# Altium footprint library Jacks.PcbLib: 4 footprints
Each footprint in its own frame and in the unit in brackets; x right, y up, seen from the top. Pads: shape width x height; smd on the part's side, far side on the other; paste and mask are expansions set on the pad; w line width, h text height; cw(c..) or ccw(c..) is an arc to the next point about the centre after c.
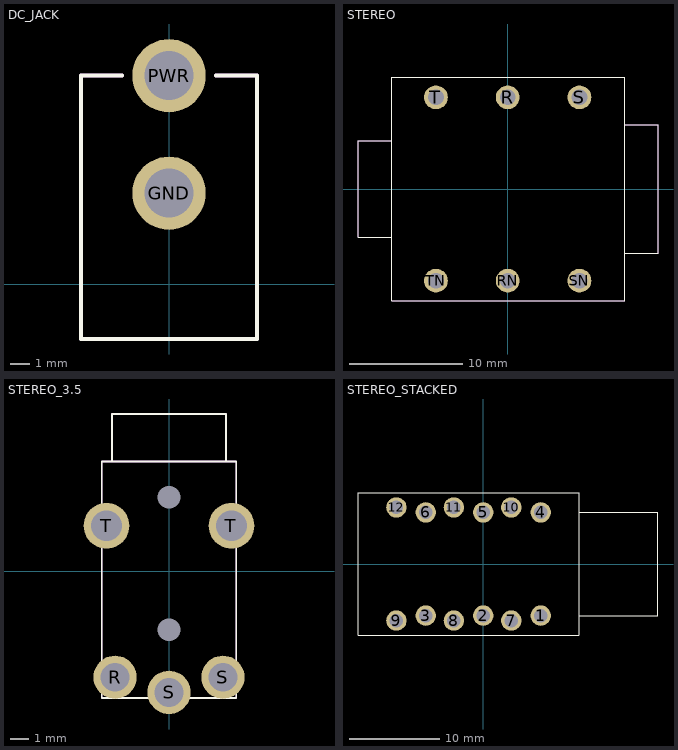
[diagram p0: the footprints below, top view; thin cyan lines are the x and y axes]

## DC_JACK [mm]
pads (2):
  round 3.75 hole 2.5: GND(0,4.652) PWR(0,10.652)
Top Overlay:
  lines w0.203: -2.4,10.652 -4.5,10.652 -4.5,-2.794 4.5,-2.794 4.5,5.252 ; 2.4,10.652 4.5,10.652 4.5,9.952 ; 4.496,5.036 4.496,9.957
Mechanical 2:
  lines w0.203: -2.4,10.652 -4.5,10.652 -4.5,-2.794 4.5,-2.794 4.5,5.252 ; 2.4,10.652 4.5,10.652 4.5,9.952 ; 4.496,5.036 4.496,9.957
3D body "DC_JACK.step": height 11, standoff -3.5, extent -4.504,-2.856 4.496,11.644

## STEREO [mm]
pads (6):
  round 2.1 hole 1.4: R(0,8.115) RN(0,-8.115) S(6.35,8.115) SN(6.35,-8.115) T(-6.35,8.115) TN(-6.35,-8.115)
Top Overlay:
  lines w0.1: -10.25,-4.25 -13.25,-4.25 -13.25,4.25 -10.25,4.25 ; -10.25,-4.25 -10.25,4.25 ; -10.25,-4.25 -10.25,-9.906 10.35,-9.906 10.35,-5.7 ; -10.25,4.25 -10.25,9.906 10.35,9.906 10.35,5.7 ; 10.35,-5.7 13.3,-5.7 13.3,5.7 10.35,5.7 ; 10.35,-5.7 10.35,5.7
Mechanical 2:
  lines w0.1: -10.25,-4.25 -10.25,4.25 ; -10.25,-4.25 -10.25,-9.906 10.35,-9.906 10.35,-5.7 ; -10.25,-4.25 -13.25,-4.25 -13.25,4.25 -10.25,4.25 ; -10.25,4.25 -10.25,9.906 10.35,9.906 10.35,5.7 ; 10.35,-5.7 10.35,5.7 ; 10.35,-5.7 13.3,-5.7 13.3,5.7 10.35,5.7
3D body "STEREO.STEP": height 15.5, standoff -4, extent -14.275,-9.967 14.275,10.033

## STEREO_3.5 [mm]
pads (7):
  round 2.285 hole 1.523: R(-2.85,-5.6) S(0,-6.4) S(2.85,-5.6)
  round 2.419 hole 1.613: T(-3.3,2.4) T(3.3,2.4)
  round 0.55 hole 1.2 unplated: ""(0,-3.1) ""(0,3.9)
Top Overlay:
  lines w0.1: -3,5.8 -3.55,5.8 -3.55,-6.7 3.55,-6.7 3.55,5.8 3,5.8 ; -3,5.8 -3,8.3 3,8.3 3,5.8 ; -3,5.8 3,5.8
Mechanical 2:
  lines w0.1: -3,5.8 -3,8.3 3,8.3 3,5.8 ; -3.55,-6.7 -3.55,5.8 3.55,5.8 3.55,-6.7 -3.55,-6.7
3D body "PJ-322.step": height 6, standoff -2.5, extent -3.5,-6.308 3.5,8.317

## STEREO_STACKED [mm]
pads (12):
  round 2.25 hole 1.5: 1(6.35,-5.7) 2(0,-5.7) 3(-6.35,-5.7) 4(6.35,5.7) 5(0,5.7) 6(-6.35,5.7) 7(3.1,-6.25) 8(-3.25,-6.25) 9(-9.6,-6.25) 10(3.1,6.25) 11(-3.25,6.25) 12(-9.6,6.25)
Top Overlay:
  lines w0.127: 10.541,-7.874 -13.843,-7.874 -13.843,7.874 10.541,7.874 ; 10.6,-7.874 10.6,-5.7 ; 10.6,7.874 10.6,5.7 ; 10.6,-5.7 10.6,5.7 ; 10.6,-5.7 19.304,-5.7 19.304,5.7 10.6,5.7
3D body "STEREO_STACKED.step": height 29.3, standoff -4.45, extent -13.875,-8 19.625,8